# Altium schematic symbol library SMAJ5P0A.SchLib: 1 symbol
Pins are listed as number, name and electrical type; pins without a type are passive.

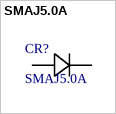
[diagram p0: symbol SMAJ5.0A]

## SMAJ5.0A
designator CR?
TVS DIODE 5VWM 9.2VC DO214AC; Manufacturer_Name: Littelfuse Inc; Copyright: Copyright (C) 2025 Ultra Librarian. All rights reserved.; Manufacturer_Part_Number: SMAJ5.0A
footprint SMASeries_LTF
pins: 1, 2